# Altium schematic symbol library eos26_motherboard_basic.SCHLIB: 23 symbols
Pins are listed as number, name and electrical type; pins without a type are passive.

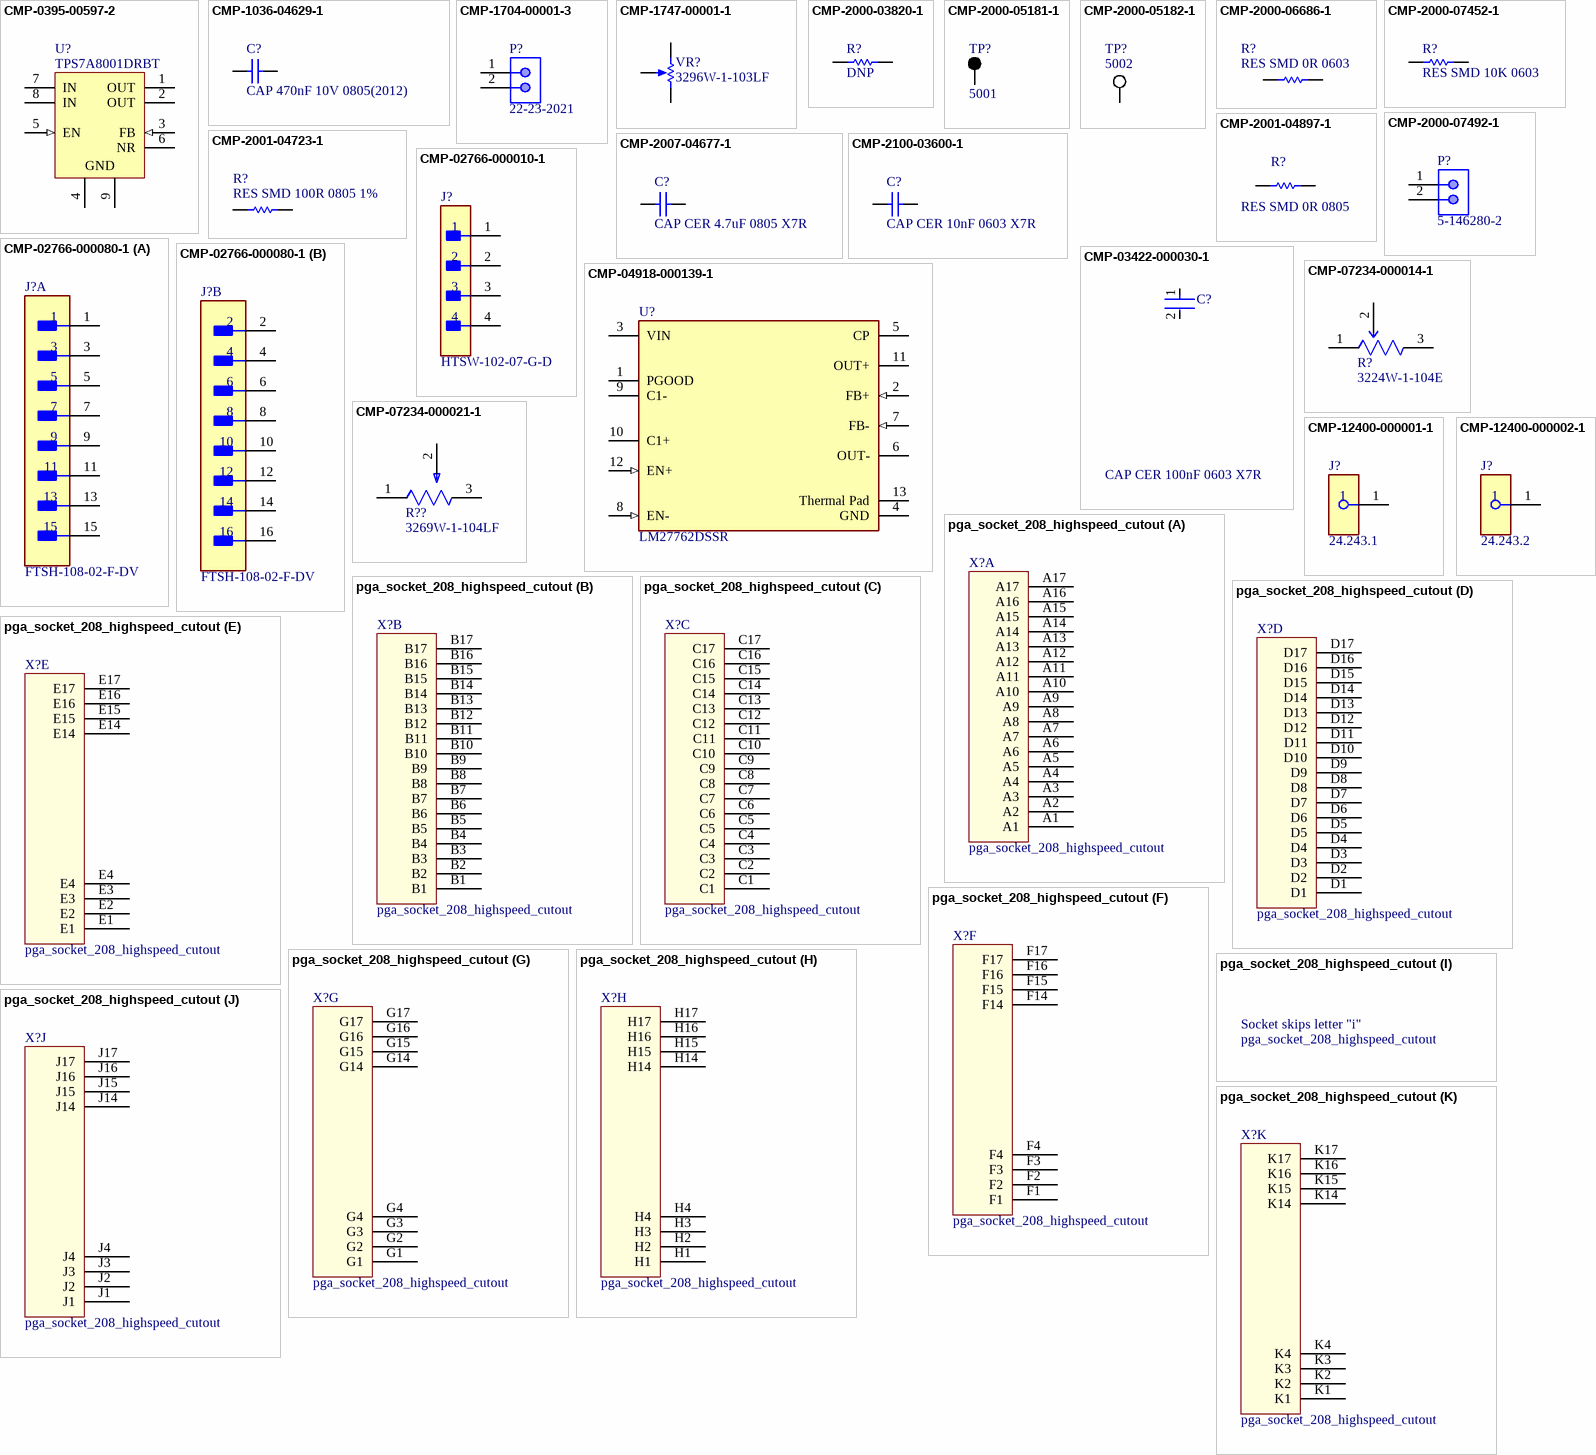
[diagram p0: symbols CMP-0395-00597-2 to pga_socket_208_highspeed_cutout]

## CMP-0395-00597-2
designator U?, comment TPS7A8001DRBT
Single Output LDO, 1 A, Adjustable 0.8 to 6 V Output, 2.2 to 6.5 V Input, with High-Bandwidth PSRR, 8-pin SON (DRB), -40 to 125 degC, Green (RoHS & no Sb/Br); Manufacturer: Texas Instruments; Vin(Min)(V): 2.2; Iq(Typ)(mA): 0.04; Vout Adj(Max)(V): 6; SubFamily: Single Channel LDO; Accuracy(%): 3; Vin(Max)(V): 6.5; Vdo(Typ)(mV): 170; Vout Adj(Min)(V): 0.8; Iout(Max)(A): 1; PackageReference: DRB0008A; ComponentLink3URL: http://www.ti.com/litv/pdf/mpds118h; Eco-Plan: Green (RoHS & no Sb/Br); ComponentLink2Description: Datasheet; PackageVersion: 4203482-2/K; PackageDescription: 8-Pin Plastic Small Outline, Body 3 x 3 mm, Pitch 0.65 mm; ComponentLink2URL: http://www.ti.com/general/docs/lit/getliterature.tsp?genericPartNumber=TPS7A8001&fileType=pdf; ComponentLink1Description: Manufacturer URL; DatasheetVersion: SBVS135G; ComponentLink1URL: http://www.ti.com/; Mounting Technology: Surface Mount; PartNumber: TPS7A8001DRBT; ComponentLink3Description: Package Specification; Manufacturer 1: Texas Instruments; Manufacturer Part Number 1: TPS7A8001DRBT
footprint DRB0008A_V (SON, 8-Leads, Body 3x3mm, Pitch 0.65mm, Thermal Pad 1.50 x 3.8mm)
pins: 1 OUT (power) "Regulator output. A 4.7 uF or larger capacitor of any type is required for stability.", 2 OUT (power) "Regulator output. A 4.7 uF or larger capacitor of any type is required for stability.", 3 FB (in) "Adjustable voltage version only. This pin is the input to the control loop error amplifier and is used to set the output voltage of the device.", 4 GND (power) "Ground.", 5 EN (in) "Driving the enable pin (EN) high turns on the regulator. Driving this pin low puts the regulator into shutdown mode. Refer to Shutdown in the Application Information section for more details. EN must not be left floating and (See Datasheet)", 6 NR "Connect an external capacitor between this pin and ground to reduce output noise to very low levels. Also, the capacitor slows down the VOUT ramp (RC softstart).", 7 IN (power) "Unregulated input supply.", 8 IN (power) "Unregulated input supply.", 9 GND (power) "Ground."

## CMP-1036-04629-1
designator C?, comment CAP 470nF 10V 0805(2012)
CAP 470nF 10V ±5% 0805 (2012 Metric) Thickness 1.45mm SMD; Manufacturer 1: Vishay Vitramon; Manufacturer Part Number 1: VJ0805Y474JXQTW1BC; Case-EIA: 0805; Case-Metric: 2012; Tolerance: Â±5%; Max Thickness: 1.45 mm; Rated Voltage: 10 V; Technology: SMT; Value: 470nF; Manufacturer 2: Vishay Vitramon; Manufacturer Part Number 2: VJ0805Y474JXQRW1BC; Manufacturer 3: KEMET; Manufacturer Part Number 3: C0805C474J8RACTU; Manufacturer 4: KEMET; Manufacturer Part Number 4: C0805C474J8RACTM; Manufacturer 5: Kyocera AVX; Manufacturer Part Number 5: 0805ZC474JAT2A; Manufacturer 6: KEMET; Manufacturer Part Number 6: C0805C474J8RAC; Manufacturer 7: Kyocera AVX; Manufacturer Part Number 7: 0805ZC474JAT4A
footprint CAPC0805(2012)145_M (Chip Capacitor, Body 2.0x1.2mm, Height 1.45mm, IPC Low Density)
footprint CAPC0805(2012)145_L (Chip Capacitor, Body 2.0x1.2mm, Height 1.45mm, IPC High Density)
footprint CAPC0805(2012)145_N (Chip Capacitor, Body 2.0x1.2mm, Height 1.45mm, IPC Medium Density)
pins: 1, 2
1 alternate drawing of the same symbol

## CMP-1704-00001-3
designator P?, comment 22-23-2021
Male Header, Pitch 2.54 mm, 1 x 2 Position, Height 10.67 mm, Tail Length 3.56 mm, 0 to 75 degC, RoHS, Bulk; Manufacturer 1: Molex; Package Quantity: 3000; Height: 10.67 mm; RoHSCompliant: True; ComponentLink2URL: https://datasheet.ciiva.com/19454/232266-19454304.pdf; PartNumber: 22-23-2021; Packaging: Bulk; ComponentLink2Description: Datasheet; Min Operating Temperature: 0 degC; ComponentLink1Description: Manufacturer URL; Length: 5.08 mm; Mounting Technology: Through Hole; Max Operating Temperature: 75 degC; REACH SVHC: Unknown; PackageDescription: Male Header, Pitch 2.54 mm, 1 x 2 Position, Height 10.67 mm, Tail Length 3.56 mm; ComponentLink1URL: http://www.molex.com/; Mount: Through Hole; Radiation Hardening: No; Width: 6.35 mm; Pins: 2; Manufacturer Part Number 1: 22-23-2021
footprint MOLX-22-23-2021_V (THD, 2-Leads, Body 6.35x4.93mm, Pitch 2.54mm)
pins: 1, 2

## CMP-1747-00001-1
designator VR?, comment 3296W-1-103LF
Square Trimpot(R) Trimming Potentiometer, 10 KOhm, +/- 10%, 0.5 W, -55 to 125 degC, 3-Pin THD, RoHS, Tube; Manufacturer 1: Bourns; Voltage Rating: 75 V; Resistance: 120 Ohm; Tolerance: 1%; Power Rating: 100 mW; Case\Package: 0603; Type (Resistor): Thick Film; PackageDescription: 3-Pin Through Hole Device, Body 9.53 x 4.83 mm, Pitch 2.54 mm; RoHSCompliant: true; Package Quantity: 5000; Case Code (Metric): 1608; PackageReference: 3296W; ComponentLink2Description: Datasheet; REACH SVHC: Unknown; Case Code (Imperial): 0603; ComponentLink1URL: http://www.bourns.com/; Width: 0.85 mm; Radiation Hardening: No; Min Operating Temperature: -55 degC; Mount: Surface Mount; ComponentLink1Description: Manufacturer URL; Max Operating Temperature: 155 degC; Weight: 7.1E-05 oz; Pins: 2; DatasheetVersion: May-16; Packaging: Tape and Reel; Height: 0.45 mm; Length: 1.55 mm; ComponentLink2URL: http://www.bourns.com/docs/Product-Datasheets/3296.pdf; Manufacturer Part Number 1: 3296W-1-103LF
footprint BOUR-3296W (THD, 3-Leads, Body 9.53x4.83mm, Pitch 2.54mm)
pins: 1 CCW, 2 S, 3 CW

## CMP-2000-03820-1
designator R?, comment DNP
Part Number: CRCW0603100KFKEA; Manufacturer: Vishay Dale; Manufacturer 1: Vishay; Manufacturer Part Number 1: CRCW0603-100KFKEA
footprint RESC1609X50X30LL10T20 (Chip Resistor, 2-Leads, Body 1.55x0.85mm, IPC High Density)
footprint RESC1609X50X30NL10T20 (Chip Resistor, 2-Leads, Body 1.55x0.85mm, IPC Medium Density)
footprint RESC1609X50X30ML10T20 (Chip Resistor, 2-Leads, Body 1.55x0.85mm, IPC Low Density)
pins: 1, 2
1 alternate drawing of the same symbol

## CMP-2000-05181-1
designator TP?, comment 5001
Test Point, Black, 1-Pin THD, RoHS, Bulk; Manufacturer: Keystone; Manufacturer 1: Keystone Electronics; Other Names: 5001K; Catalog Drawings: 5000Series; Alternate Color: 5004K-ND / -TESTPOINTPCMINI.040"DYELLOW / 5003K-ND / -TESTPOINTPCMINI.040"DORANGE / 5002K-ND / -TESTPOINTPCMINI.040"DWHITE / 5000K-ND / -TESTPOINTPCMINI.040"DRED; Kits: DKTGRS232C-KIT-ND / -TTLCONVERTER; Online Catalog: ColorCodedTestPoints; Datasheet URL: https://ciiva.com/datasheet-click-2917627?src=ciiva&sig=bd195616; Mounting Type: 0.040"(1.02mm)HoleDiameter; Family: TestPoints; RoHS Information: RoHSComplianceStatement; Datasheet Version: Rev. G, 12/2008; Color: Black; Category: TestandMeasurement; Standard Package: 100; Manufacturer URL: http://www.keyelco.com/; Material: Base,Nylon46,UL94V-0; Type: PCTestPoint,Miniature; Terminal: 0.010"x0.020"(0.25mmx0.51mm)PhosphorBronzeWire,SilverPlated; Series: THM; Packaging: Bulk; Manufacturer Part Number 1: 5001
footprint KSTN-5001 (Test Point, Through Hole, Dia 2.54mm)
pins: 1

## CMP-2000-05182-1
designator TP?, comment 5002
Test Point, White, 1-Pin THD, RoHS, Bulk; Manufacturer: KeystoneElectronics; Manufacturer 1: Keystone Electronics; Outside Diameter: 2.54mm; Plating: Silver; Mounting Hole Size: 1mm; Product: TestPoints; Packaging: Bulk; Manufacturer URL: http://www.keyelco.com/; Length: 7.62mm; Datasheet Version: Rev. G, 12/2008; Type: Miniature; Product Category: CircuitBoardHardware-PCB; Material: Nylon; RoHS: True; Contact Material: PhosphorBronze; Datasheet URL: https://ciiva.com/datasheet-click-2917627?src=ciiva&sig=bd195616; Color: White; Brand: KeystoneElectronics; Manufacturer Part Number 1: 5002
footprint KSTN-5002 (Test Point, Through Hole, Dia 2.54mm)
pins: 1

## CMP-2000-06686-1
designator R?, comment RES SMD 0R 0603
Chip Resistor, 0 Ohm, +/- 5%, 100 mW, -55 to 155 degC, 0603 (1608 Metric), RoHS, Tape and Reel; Manufacturer: Rohm; Manufacturer Part Number 1: MCR03ERTJ000; Tolerance: Jumper; Power (Watts): 0.1W,1/10W; Resistance (Ohms): 0.0; Online Catalog: MCR03Series; EDA / CAD Models: DownloadfromAcceleratedDesigns; Other Names: RHM0.0CGTR; Series: MCR; Package Description: 2-Pin Surface Mount Device, Body 1.60 x 0.80 mm; Composition: ThickFilm; Height: 0.022"(0.55mm); Mounting Technology: SurfaceMount; Family: ChipResistor-SurfaceMount; Temperature Coefficient: -; Category: Resistors; Supplier Device Package: 0603(1608Metric); Package Reference: 0603; Size / Dimension: 0.063"Lx0.031"W(1.60mmx0.80mm); Standard Package: 5,000; Datasheet URL: http://www.rohm.com/web/global/datasheet/MCR03ERTJ; Features: -; Datasheet Version: Rev. F, 02/2015; Operating Temperature: -55°C~155°C; Package / Case: 0603(1608Metric); Manufacturer URL: http://www.rohm.com/web/global/; Packaging: Tape&Reel(TR); Number of Terminations: 2; Manufacturer 1: Rohm
footprint RESC1608X55X30LL10T20_A (Chip Resistor, 2-Leads, Body 1.7x0.9mm, IPC High Density)
footprint RESC1608X55X30ML10T20_A (Chip Resistor, 2-Leads, Body 1.7x0.9mm, IPC Low Density)
footprint RESC1608X55X30NL10T20_A (Chip Resistor, 2-Leads, Body 1.7x0.9mm, IPC Medium Density)
pins: 1, 2

## CMP-2000-07452-1
designator R?, comment RES SMD 10K 0603
Chip Resistor, 10 KOhm, +/- 1%, 0.1 W, -55 to 155 degC, 0603 (1608 Metric), RoHS, Tape and Reel; Manufacturer: Panasonic; Manufacturer Part Number 1: ERJ-3EKF1002V; Voltage Rating: 75V; Case\/Package: 0603; Power Rating: 100mW; Resistance: 10KOhm; Temperature Coefficient: 100ppm\/degreesC; Number of Pins: 2; Package Reference: 603; Depth: 0.8mm; Mount: SurfaceMount; Package Description: 2-Pin Surface Mount Device, Body 1.6 x 0.85 mm; Datasheet Version: 02/2017; Length: 1.6mm; Lead Free: LeadFree; Height: 0.45mm; Number of Terminations: 2; Max Power Dissipation: 100mW; Min Operating Temperature: -55degC; Datasheet URL: https://industrial.panasonic.com/cdbs/www-data/pdf/RDA0000/AOA0000C304.pdf; Termination: SMD/SMT; Case Code (Metric): 1608; Case Code (Imperial): 0603; Tolerance: 1%; Max Operating Temperature: 155degC; RoHSCompliant: true; Voltage Rating (DC): 75V; Radiation Hardening: No; Packaging: TapeandReel; Composition: ThickFilm; Mounting Technology: SurfaceMount; Manufacturer URL: http://www.panasonic.com/; Width: 0.031inch; REACH SVHC: NoSVHC; Contact Plating: Tin; Military Standard: Not; Package Quantity: 1; Manufacturer 1: Panasonic
footprint RESC1609X55X30LL15T15 (Chip Resistor, 2-Leads, Body 1.75x0.95mm, IPC High Density)
footprint RESC1609X55X30ML15T15 (Chip Resistor, 2-Leads, Body 1.75x0.95mm, IPC Low Density)
footprint RESC1609X55X30NL15T15 (Chip Resistor, 2-Leads, Body 1.75x0.95mm, IPC Medium Density)
pins: 1, 2

## CMP-2000-07492-1
designator P?, comment 5-146280-2
Male Header, Pitch 2.54 mm, 1 x 2 Position, Height 8.21 mm, Tail Length 3.05 mm, -65 to 105 degC, RoHS, Bulk; Manufacturer: TE Connectivity; Mating Connector Lock: No(Without); Number of Positions: 2; Pitch: 2.54mm; PCB Mounting Orientation: Vertical; Keyed: No; Case\/Package: 100; Mating Post Length: 0.23inch; High Temperature Housing: Yes; Max Current Rating: 5A; PCB Thickness: 0.063inch; PCB Mount Retention: Without; Approvals: CSA; Current Rating: 3A; Radiation Hardening: No; Length: 4.67mm; Contact Mating Length: 0.23inch; Connector Type: Header; Number of Rows: 1; Termination Post Length: 0.12inch; Board Standoff: No(Without); Max Operating Temperature: 105degC; Contact Shape: Square; Selectively Loaded: No(Without); Gasket: No(Without); Number of Contacts: 2; Contact Gender: Male; Mating Alignment: No(Without); Manufacturer URL: http://www.te.com/; Datasheet URL: http://www.te.com/commerce/DocumentDelivery/DDEController?Action=showdoc&DocId=Customer+Drawing%7F146280%7FH1%7Fpdf%7FEnglish%7FENG_CD_146280_H1.pdf%7F5-146280-2; Mount: ThroughHole; Orientation: Straight; Packaging: Carton; Package Reference: 5-146280-2; Package Quantity: 500; Stabilizers: No(Without); Row Spacing: 2.54mm; Contact Material: CopperAlloy; Panel Mount Retention: No(Without); Datasheet Version: Rev. H1, 08/2016; Housing Colour: Black; Colour: Black; Package Description: Male Header, Pitch 2.54 mm, 1 x 2 Position, Height 8.21 mm, Tail Length 3.05 mm; Contact Plating: Matte; Housing Material: Polymer; Contact Protection: No(Without); Min Operating Temperature: -65degC; Mounting Technology: ThroughHole; Flammability Rating: UL94V-0; RoHSCompliant: true; Termination: ThroughHole; Depth: 2.34mm; High Speed Serial Data Connector: No; Manufacturer 1: TE Connectivity; Manufacturer Part Number 1: 5-146280-2
footprint TECO-5-146280-2_V (Connector, 2-Leads, Body 4.67x2.34mm, Pitch 2.54mm)
pins: 1, 2

## CMP-2001-04723-1
designator R?, comment RES SMD 100R 0805 1%
Manufacturer: Vishay Dale; Part Number: TNPW0805100RBEEA; Manufacturer 1: Vishay Dale; Manufacturer Part Number 1: TNPW0805100RBEEA
footprint RESC2013X55X40NL15T20 (Chip Resistor, 2-Leads, Body 2.00x1.25mm, IPC Medium Density)
footprint RESC2013X55X40ML15T20 (Chip Resistor, 2-Leads, Body 2.00x1.25mm, IPC Low Density)
footprint RESC2013X55X40LL15T20 (Chip Resistor, 2-Leads, Body 2.00x1.25mm, IPC High Density)
pins: 1, 2
1 alternate drawing of the same symbol

## CMP-2001-04897-1
designator R?, comment RES SMD 0R 0805
Manufacturer: Vishay Dale; Part Number: CRCW08050000Z0EB; Manufacturer 1: Vishay Dale; Manufacturer Part Number 1: CRCW08050000Z0EB
footprint RESC2013X50X30NL20T20 (Chip Resistor, 2-Leads, Body 2.00x1.25mm, IPC Medium Density)
footprint RESC2013X50X30ML20T20 (Chip Resistor, 2-Leads, Body 2.00x1.25mm, IPC Low Density)
footprint RESC2013X50X30LL20T20 (Chip Resistor, 2-Leads, Body 2.00x1.25mm, IPC High Density)
pins: 1, 2
1 alternate drawing of the same symbol

## CMP-2007-04677-1
designator C?, comment CAP CER 4.7uF 0805 X7R
Part Number: 0805ZC475KAT2A; Manufacturer: AVX Interconnect / Elco; Manufacturer 1: Kyocera AVX; Manufacturer Part Number 1: 0805ZC475KAT2A
footprint CAPC2013X140X50NL20T25 (Chip Capacitor, 2-Leads, Body 2.00x1.25mm, IPC Medium Density)
footprint CAPC2013X140X50LL20T25 (Chip Capacitor, 2-Leads, Body 2.00x1.25mm, IPC High Density)
footprint CAPC2013X140X50ML20T25 (Chip Capacitor, 2-Leads, Body 2.00x1.25mm, IPC Low Density)
pins: 1, 2
1 alternate drawing of the same symbol

## CMP-2100-03600-1
designator C?, comment CAP CER 10nF 0603 X7R
Chip Capacitor, 10 nF, +/- 10%, 50 V, -55 to 125 degC, 0603 (1608 Metric), RoHS, Tape and Reel; Manufacturer: Yageo; Manufacturer Part Number 1: CC0603KRX7R9BB103; Insulation Resistance: 100GR; Voltage Rating (DC): 50V; Material: Ceramic; Lead Free: LeadFree; Case/Package: 0603; Datasheet Version: Rev. 15, 10/2016; Composition: Ceramic; Radiation Hardening: No; Thickness: 0.035inch; RoHSCompliant: True; Dielectric: X7R; Termination: SMD/SMT; Capacitance: 10nF; Manufacturer URL: http://www.yageo.com/; Tolerance: 10%; REACH SVHC: NoSVHC; Voltage: 50V; Max Operating Temperature: 125degC; Case Code (Metric): 1608; Package Quantity: 1; Case Code (Imperial): 0603; Packaging: TapeandReel; Package Reference: 0603; Width: 0.031inch; Datasheet URL: http://www.yageo.com/documents/recent/UPY-GPHC_X7R_6.3V-to-50V_15.pdf; Length: 1.6mm; Min Operating Temperature: -55degC; Number of Pins: 2; Depth: 0.8mm; Mount: SurfaceMount; Height: 0.8mm; Voltage Rating: 50V; Package Description: 2-Pin Surface Mount Device, Body 1.6 x 0.8 mm; Manufacturer 1: Yageo
footprint CAPC1608X90X40ML10T20 (Chip Capacitor, 2-Leads, Body 1.7x0.9mm, IPC Low Density)
footprint CAPC1608X90X40NL10T20 (Chip Capacitor, 2-Leads, Body 1.60x0.80mm, IPC Medium Density)
footprint CAPC1608X90X40LL10T20 (Chip Capacitor, 2-Leads, Body 1.60x0.80mm, IPC High Density)
pins: 1, 2

## CMP-02766-000010-1
designator J?, comment HTSW-102-07-G-D
CONN HEADER VERT 4POS 2.54MM; Manufacturer: Samtec; Voltage Rating: 550V; Conn Orientation: Straight; Number Of Contacts: 4; Conn Gender: Male; Current Rating: 6.3A; Number Of Rows: 2; Category: Conn; Temperature: -55°C to +125°C; Automotive: No; Digikey Description: CONN HEADER VERT 4POS 2.54MM; ComponentLink2URL: http://suddendocs.samtec.com/catalog_english/htsw_th.pdf; Device Class L2: Headers and Wire Housings; Mouser Description: Conn Unshrouded Header HDR 4 POS 2.54mm Solder ST Thru-Hole Bag; Manufacturer Part Number: HTSW-102-07-G-D; Temperature Range High: +125°C; Contact Material: Gold,Nickel; Temperature Range Low: -55°C; ComponentLink2Description: Datasheet; Device Class L1: Connectors; Pitch: 2.54mm; Octopart: https://octopart.com/htsw-102-07-g-d-samtec-10531767; RoHS: TRUE; Package: HTSW-102-07-G-D; Lead Free: Yes; Device Class L3: unset; Height: 8.71mm; Manufacturer 1: Samtec; Manufacturer Part Number 1: HTSW-102-07-G-D
footprint FP-HTSW-102-07-G-D-MFG
pins: 1, 2, 3, 4

## CMP-02766-000080-1
designator J?, comment FTSH-108-02-F-DV
CONN HEADER SMD 16POS 1.27MM; Manufacturer: Samtec; Standoff Height: 0.46mm; Conn Orientation: Vertical; Current Rating: 3.4A; Number Of Contacts: 16; Conn Gender: Male; Lead Free: Yes; Package: FTSH-108-02-F-DV; Footprint Url: http://suddendocs.samtec.com/prints/ftsh-1xx-xx-xxx-dv-xxx-footprint.pdf; Automotive: No; Pitch: 1.27mm; Manufacturer Part Number: FTSH-108-02-F-DV; Device Class L2: Headers and Wire Housings; ComponentLink2URL: http://suddendocs.samtec.com/prints/ftsh-1xx-xx-xxx-dv-xxx-xxx-mkt.pdf; ComponentLink2Description: Datasheet; Octopart: https://octopart.com/ftsh-108-02-f-dv-samtec-10605893; RoHS: TRUE; Digikey Description: CONN HEADER SMD 16POS 1.27MM; Device Class L1: Connectors; Temperature Range High: +125°C; Temperature: -55°C to +125°C; Device Class L3: unset; Category: Conn; Temperature Range Low: -55°C; Number Of Rows: 2; Contact Material: Gold,Nickel; Mouser Description: Conn Unshrouded Header HDR 16 POS 1.27mm Solder ST SMD Tube; Height: 5.09mm; Manufacturer 1: Samtec; Manufacturer Part Number 1: FTSH-108-02-F-DV
footprint FP-FTSH-108-02-F-DV-MFG
part A pins: 1, 3, 5, 7, 9, 11, 13, 15
part B pins: 2, 4, 6, 8, 10, 12, 14, 16

## CMP-03422-000030-1
designator C?, comment CAP CER 100nF 0603 X7R
CAP CER 0.1UF 16V X7R 0603; Manufacturer Part Number: CC0603KRX7R7BB104; Manufacturer: YAGEO; Tolerance: 0.1; Temperature Coefficient: 15%; Material: Ceramic; Voltage Rating: 16 V; Package: CC0603-DA; ComponentLink2Description: Datasheet; Octopart: https://octopart.com/cc0603krx7r7bb104-yageo-192941; Temperature Range High: +125°C; Digikey Description: CAP CER 0.1UF 16V X7R 0603; Value: 100 nF; Voltage: 16 V; Device Class L2: Capacitors; Height: 0.9mm; Temperature: -55°C to +125°C; Device Class L1: Passive Components; Device Class L3: Ceramic Capacitors; ComponentLink2URL: http://www.yageo.com/documents/recent/UPY-GPHC_X7R_6.3V-to-50V_18.pdf; Footprint Url: http://www.yageo.com/exep/pages/download/literatures/UPY-C_GEN_24.pdf; RoHS: TRUE; Temperature Range Low: -55°C; Temperature Characteristic: X7R; Lead Free: Yes; Capacitance: 100 nF; Category: Cap; Mouser Description: Multilayer Ceramic Capacitor, CC Series, 0.1 - F, - 10%, X7R, 16 V, 0603 [1608 Metric]; Automotive: No; Manufacturer 1: Yageo; Manufacturer Part Number 1: CC0603KRX7R7BB104
footprint FP-CC0603-DA-MFG
footprint FP-CC0603-DA-IPC_C
footprint FP-CC0603-DA-IPC_B
footprint FP-CC0603-DA-IPC_A
pins: 1, 2

## CMP-04918-000139-1
designator U?, comment LM27762DSSR
IC REG CHARGE PUMP ADJ DL 12WSON; Manufacturer 1: Texas Instruments; Switching Frequency: 2.3MHz; Output Current: 250mA; Output Type: Adjustable; Min Output Voltage: 1.5V; Min Input Voltage: 2.7V; Synchronous Rectifier: No; Quiescent Current: 390uA; Max Input Voltage: 5.5V; Max Output Voltage: 5V; Mount: Surface Mount; Lead Free: Lead Free; Topology: Charge Pump; Max Operating Temperature: 85°C; Min Operating Temperature: -40°C; Packaging: Tape and Reel; Manufacturer Part Number 1: LM27762DSSR
footprint FP-DSS0012B-MFG
footprint FP-DSS0012B-IPC_C
footprint FP-DSS0012B-IPC_B
footprint FP-DSS0012B-IPC_A
pins: 1 PGOOD (oc), 2 FB+ (in), 3 VIN (power), 4 GND (power), 5 CP, 6 OUT-, 7 FB- (in), 8 EN- (in), 9 C1-, 10 C1+, 11 OUT+, 12 EN+ (in), 13 Thermal Pad

## CMP-07234-000014-1
designator R?, comment 3224W-1-104E
TRIMMER 100KOHM 0.25W J LEAD TOP; Manufacturer: Bourns; Standoff Height: 0.2mm; Value: 100kΩ; Tolerance: 10%; Temperature Coefficient: 100ppm/°C; Power Rating: 0.25W; Category: Res; Device Class L1: Passive Components; Temperature: -65°C to +150°C; Digikey Description: TRIMMER 100KOHM 0.25W J LEAD TOP; Series: 3224; Temperature Range Low: -65°C; Automotive: No; RoHS: TRUE; Composition: Cermet; Mouser Description: Trimmer Resistors - SMD 4mm 100Kohms 10% Square Cermet Sealed; Height: 5.55mm; ComponentLink2Description: Datasheet; Package: 3224W; Manufacturer Part Number: 3224W-1-104E; Lead Free: Yes; Temperature Range High: +150°C; Octopart: https://octopart.com/3224w-1-104e-bourns-29035; Resistance: 100kΩ; ComponentLink2URL: https://www.bourns.com/docs/product-datasheets/3224.pdf?sfvrsn=c872982f_10; Device Class L2: Resistors; Device Class L3: Variable Resistors and Potentiometers; Manufacturer 1: Bourns; Manufacturer Part Number 1: 3224W-1-104E
footprint FP-3224W-MFG
pins: 1 CCW, 2 WIPER, 3 CW

## CMP-07234-000021-1
designator R??, comment 3269W-1-104LF
TRIMMER 100K OHM 0.25W SMD; Manufacturer: Bourns; Temperature Coefficient: 100ppm/°C; Tolerance: 10%; Resistance: 100kΩ; Value: 100kΩ; Composition: Cermet; Height: 8.96mm; ComponentLink2URL: https://www.bourns.com/docs/Product-Datasheets/3269.pdf; Mouser Description: Res Cermet Trimmer 100K Ohm 10% 1/4W 12(Elec)Turn 1.78mm (6.35 X 6.36 X 8.46mm) Gull Wing SMD Tube; ComponentLink2Description: Datasheet; Temperature Range High: +150°C; Temperature: -65°C to +150°C; Series: 3269; Device Class L1: Passive Components; RoHS: TRUE; Octopart: https://octopart.com/3269w-1-104lf-bourns-114162; Temperature Range Low: -65°C; Device Class L2: Resistors; Digikey Description: TRIMMER 100K OHM 0.25W SMD; Manufacturer Part Number: 3269W-1-104LF; Power Rating: 0.25W; Device Class L3: Variable Resistors and Potentiometers; Lead Free: Yes; Package: 3269W; Category: Res; Automotive: No; Manufacturer 1: Bourns; Manufacturer Part Number 1: 3269W-1-104LF
footprint FP-3269W-MFG
pins: 1 CCW, 2 WIPER, 3 CW

## CMP-12400-000001-1
designator J?, comment 24.243.1
RECEPTACLE, 20A, 4MM, PCB, SOLDER, RED; Manufacturer: Multicomp; Conn Orientation: Horizontal; Number Of Contacts: 1; Current Rating: 24A; Voltage Rating: 60V; Is Female: yes; ComponentLink2Description: Datasheet; Device Class L3: unset; Manufacturer Part Number: 24.243.1; RoHS: TRUE; Package: 24.243.1; ComponentLink2URL: https://datasheet.octopart.com/24.243.1-Multicomp-datasheet-38887736.pdf; Lead Free: Yes; Category: Conn; Height: 13mm; Device Class L2: unset; Device Class L1: Connectors; Contact Material: Silver; Automotive: No; Octopart: https://octopart.com/24.243.1-multicomp-57101049; Manufacturer 1: Multicomp; Manufacturer Part Number 1: 24.243.1
footprint FP-24_243_1-MFG
pins: 1

## CMP-12400-000002-1
designator J?, comment 24.243.2
RECEPTACLE, 20A, 4MM, PCB, SOLDER, BLACK; Manufacturer: Multicomp; Is Female: yes; Current Rating: 24A; Number Of Contacts: 1; Conn Orientation: Horizontal; Voltage Rating: 60V; Device Class L3: unset; Category: Conn; Contact Material: Silver; Octopart: https://octopart.com/24.243.2-multicomp-57101050; ComponentLink2URL: https://datasheet.octopart.com/24.243.2-Multicomp-datasheet-38887736.pdf; ComponentLink2Description: Datasheet; Automotive: No; Package: 24.243.2; Height: 13mm; Device Class L2: unset; Device Class L1: Connectors; Lead Free: Yes; Manufacturer Part Number: 24.243.2; RoHS: TRUE; Manufacturer 1: Multicomp; Manufacturer Part Number 1: 24.243.2
footprint FP-24_243_2-MFG
pins: 1

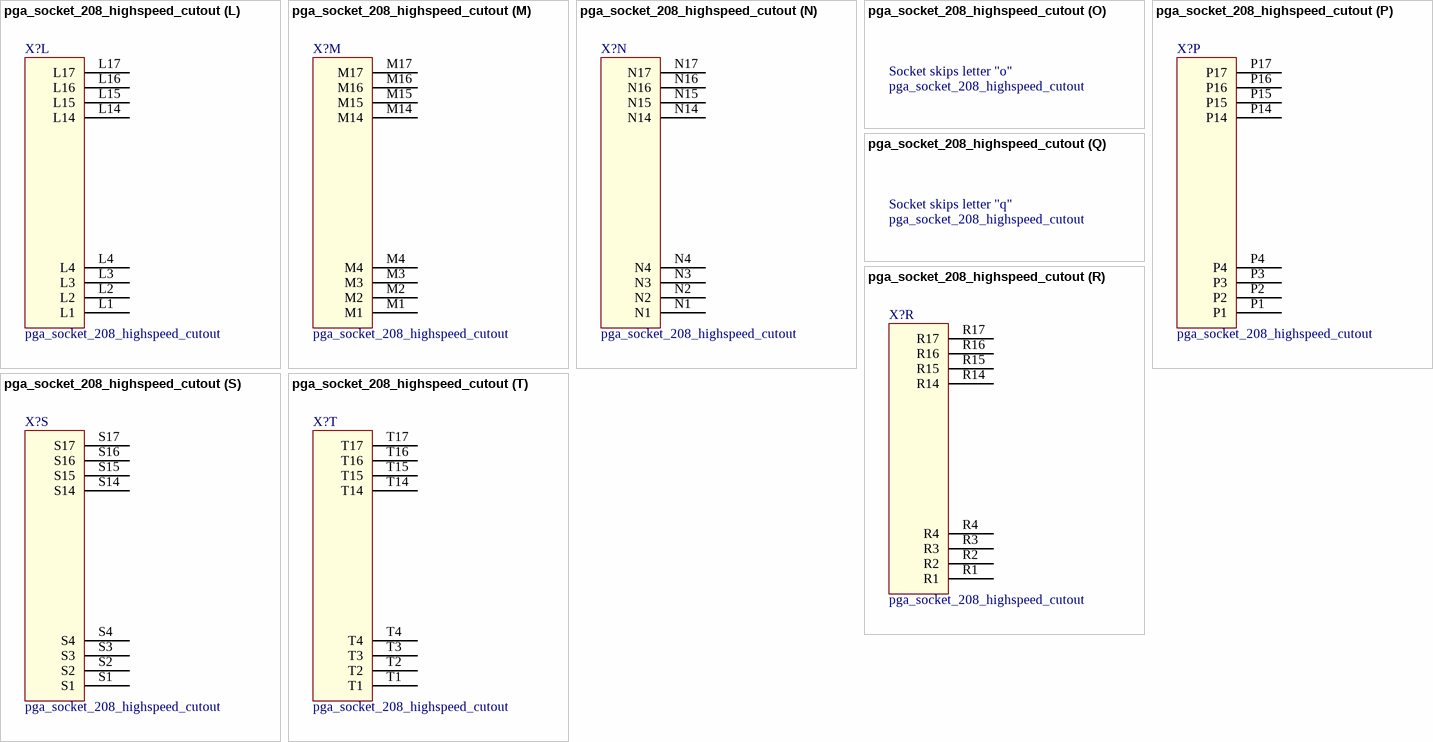
[diagram p1: symbol pga_socket_208_highspeed_cutout]

## pga_socket_208_highspeed_cutout
designator X?
footprint pga_socket_208pin_highspeed_cutout
part A pins: A1, A2, A3, A4, A5, A6, A7, A8, A9, A10, A11, A12, A13, A14, A15, A16, A17
part B pins: B1, B2, B3, B4, B5, B6, B7, B8, B9, B10, B11, B12, B13, B14, B15, B16, B17
part C pins: C1, C2, C3, C4, C5, C6, C7, C8, C9, C10, C11, C12, C13, C14, C15, C16, C17
part D pins: D1, D2, D3, D4, D5, D6, D7, D8, D9, D10, D11, D12, D13, D14, D15, D16, D17
part E pins: E1, E2, E3, E4, E14, E15, E16, E17
part F pins: F1, F2, F3, F4, F14, F15, F16, F17
part G pins: G1, G2, G3, G4, G14, G15, G16, G17
part H pins: H1, H2, H3, H4, H14, H15, H16, H17
part J pins: J1, J2, J3, J4, J14, J15, J16, J17
part K pins: K1, K2, K3, K4, K14, K15, K16, K17
part L pins: L1, L2, L3, L4, L14, L15, L16, L17
part M pins: M1, M2, M3, M4, M14, M15, M16, M17
part N pins: N1, N2, N3, N4, N14, N15, N16, N17
part P pins: P1, P2, P3, P4, P14, P15, P16, P17
part R pins: R1, R2, R3, R4, R14, R15, R16, R17
part S pins: S1, S2, S3, S4, S14, S15, S16, S17
part T pins: T1, T2, T3, T4, T14, T15, T16, T17
part I text: Socket skips letter "i"
part O text: Socket skips letter "o"
part Q text: Socket skips letter "q"